# Altium schematic symbol library EL-sense_TVS_Varistors_MOVs.SchLib: 4 symbols
Pins are listed as number, name and electrical type; pins without a type are passive.

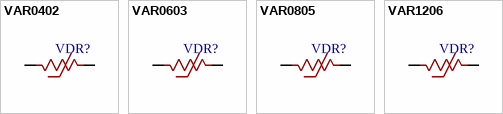
[diagram p0: symbols VAR0402 to VAR1206]

## VAR0402
designator VDR?
pins: 1, 2

## VAR0603
designator VDR?
pins: 1, 2

## VAR0805
designator VDR?
pins: 1, 2

## VAR1206
designator VDR?
pins: 1, 2